# Altium integrated library Microchip Power Management Voltage Detector.IntLib: 122 symbols (part 1 of 4)
Pins are listed as number, name and electrical type; pins without a type are passive.

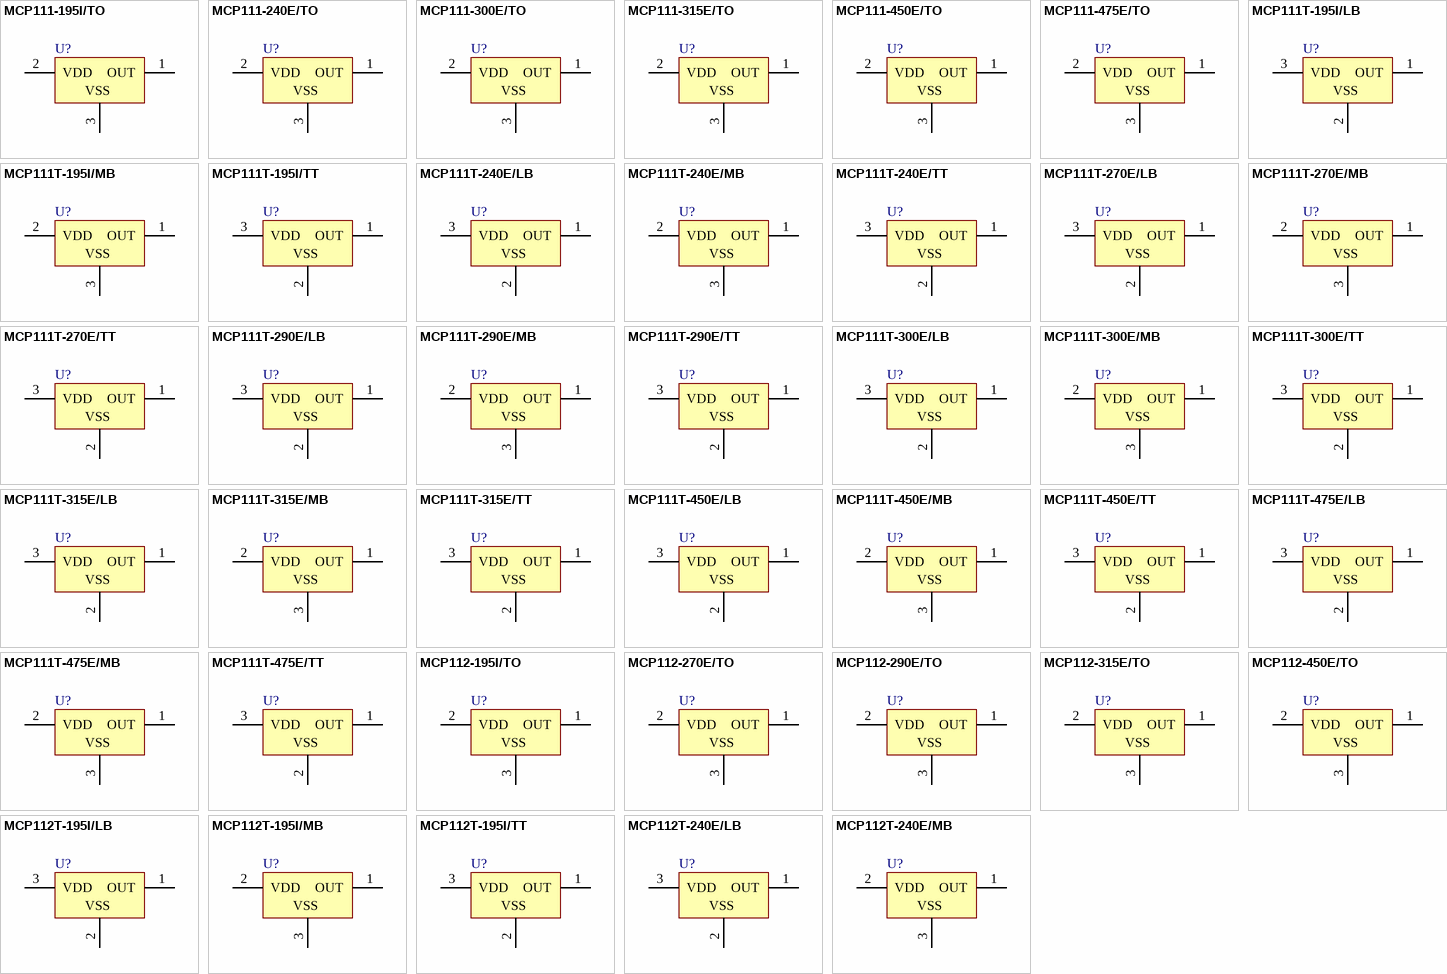
[diagram p0: symbols MCP111-195I/TO to MCP112T-240E/MB]

## MCP111-195I/TO
designator U?
1.75µA Micropower Voltage Detector, Open-Drain Output, 1.90V, 3-Pin TO-92, Industrial Temperature; Manufacturer: Microchip; PartNumber: MCP111-195I/TO; DatasheetVersion: revD, Jun-2005; PackageVersion: revBB, Aug-2009; PackageReference: TO-92-TO3; PackageDescription: 3-Lead Plastic Transistor Outline (TO) [TO-92]; Supplier 1: Digi-Key; Supplier Part Number 1: MCP111-195I/TO-ND; Supplier 2: Farnell; Supplier Part Number 2: 1439357; Supplier 3: Newark; Supplier Part Number 3: 58M8850; Supplier 4: Newark; Supplier Part Number 4: 17M0553; Supplier 5: Mouser; Supplier Part Number 5: 579-MCP111-195I/TO; Mounting Technology: Through Hole; ComponentLink1Description: Manufacturer URL; ComponentLink1URL: http://www.microchip.com/; ComponentLink2Description: Datasheet; ComponentLink2URL: http://ww1.microchip.com/downloads/en/DeviceDoc/21889d.pdf; ComponentLink3Description: Package Specification; ComponentLink3URL: http://www.microchip.com/stellent/groups/techpub_sg/documents/packagingspec/en012702.pdf
footprint TO-92-TO3 (TO, Flat Index; 3 In-Line, Axial Leads; Body Dia. 4.8mm; Leads 0.56 x 0.53 mm (max))
pins: 1 OUT (power), 2 VDD (power), 3 VSS (power)

## MCP111-240E/TO
designator U?
1.75µA Micropower Voltage Detector, Open-Drain Output, 2.32V, 3-Pin TO-92, Extended Temperature; Manufacturer: Microchip; PartNumber: MCP111-240E/TO; DatasheetVersion: revD, Jun-2005; PackageVersion: revBB, Aug-2009; PackageReference: TO-92-TO3; PackageDescription: 3-Lead Plastic Transistor Outline (TO) [TO-92]; Supplier 1: Digi-Key; Supplier Part Number 1: MCP111-240E/TO-ND; Supplier 2: Mouser; Supplier Part Number 2: 579-MCP111-240E/TO; Mounting Technology: Through Hole; ComponentLink1Description: Manufacturer URL; ComponentLink1URL: http://www.microchip.com/; ComponentLink2Description: Datasheet; ComponentLink2URL: http://ww1.microchip.com/downloads/en/DeviceDoc/21889d.pdf; ComponentLink3Description: Package Specification; ComponentLink3URL: http://www.microchip.com/stellent/groups/techpub_sg/documents/packagingspec/en012702.pdf
footprint TO-92-TO3 (TO, Flat Index; 3 In-Line, Axial Leads; Body Dia. 4.8mm; Leads 0.56 x 0.53 mm (max))
pins: 1 OUT (power), 2 VDD (power), 3 VSS (power)

## MCP111-300E/TO
designator U?
1.75µA Micropower Voltage Detector, Open-Drain Output, 2.93V, 3-Pin TO-92, Extended Temperature; Manufacturer: Microchip; PartNumber: MCP111-300E/TO; DatasheetVersion: revD, Jun-2005; PackageVersion: revBB, Aug-2009; PackageReference: TO-92-TO3; PackageDescription: 3-Lead Plastic Transistor Outline (TO) [TO-92]; Supplier 1: Digi-Key; Supplier Part Number 1: MCP111-300E/TO-ND; Supplier 2: Farnell; Supplier Part Number 2: 1851875; Supplier 3: Newark; Supplier Part Number 3: 56J7321; Supplier 4: Mouser; Supplier Part Number 4: 579-MCP111-300E/TO; Mounting Technology: Through Hole; ComponentLink1Description: Manufacturer URL; ComponentLink1URL: http://www.microchip.com/; ComponentLink2Description: Datasheet; ComponentLink2URL: http://ww1.microchip.com/downloads/en/DeviceDoc/21889d.pdf; ComponentLink3Description: Package Specification; ComponentLink3URL: http://www.microchip.com/stellent/groups/techpub_sg/documents/packagingspec/en012702.pdf
footprint TO-92-TO3 (TO, Flat Index; 3 In-Line, Axial Leads; Body Dia. 4.8mm; Leads 0.56 x 0.53 mm (max))
pins: 1 OUT (power), 2 VDD (power), 3 VSS (power)

## MCP111-315E/TO
designator U?
1.75µA Micropower Voltage Detector, Open-Drain Output, 3.08V, 3-Pin TO-92, Extended Temperature; Manufacturer: Microchip; PartNumber: MCP111-315E/TO; DatasheetVersion: revD, Jun-2005; PackageVersion: revBB, Aug-2009; PackageReference: TO-92-TO3; PackageDescription: 3-Lead Plastic Transistor Outline (TO) [TO-92]; Supplier 1: Digi-Key; Supplier Part Number 1: MCP111-315E/TO-ND; Supplier 2: Farnell; Supplier Part Number 2: 1863906; Supplier 3: Newark; Supplier Part Number 3: 56J7322; Supplier 4: Mouser; Supplier Part Number 4: 579-MCP111-315E/TO; Mounting Technology: Through Hole; ComponentLink1Description: Manufacturer URL; ComponentLink1URL: http://www.microchip.com/; ComponentLink2Description: Datasheet; ComponentLink2URL: http://ww1.microchip.com/downloads/en/DeviceDoc/21889d.pdf; ComponentLink3Description: Package Specification; ComponentLink3URL: http://www.microchip.com/stellent/groups/techpub_sg/documents/packagingspec/en012702.pdf
footprint TO-92-TO3 (TO, Flat Index; 3 In-Line, Axial Leads; Body Dia. 4.8mm; Leads 0.56 x 0.53 mm (max))
pins: 1 OUT (power), 2 VDD (power), 3 VSS (power)

## MCP111-450E/TO
designator U?
1.75µA Micropower Voltage Detector, Open-Drain Output, 4.38V, 3-Pin TO-92, Extended Temperature; Manufacturer: Microchip; PartNumber: MCP111-450E/TO; DatasheetVersion: revD, Jun-2005; PackageVersion: revBB, Aug-2009; PackageReference: TO-92-TO3; PackageDescription: 3-Lead Plastic Transistor Outline (TO) [TO-92]; Supplier 1: Digi-Key; Supplier Part Number 1: MCP111-450E/TO-ND; Supplier 2: Farnell; Supplier Part Number 2: 1332056; Supplier 3: Newark; Supplier Part Number 3: 34M7387; Supplier 4: Mouser; Supplier Part Number 4: 579-MCP111-450E/TO; Mounting Technology: Through Hole; ComponentLink1Description: Manufacturer URL; ComponentLink1URL: http://www.microchip.com/; ComponentLink2Description: Datasheet; ComponentLink2URL: http://ww1.microchip.com/downloads/en/DeviceDoc/21889d.pdf; ComponentLink3Description: Package Specification; ComponentLink3URL: http://www.microchip.com/stellent/groups/techpub_sg/documents/packagingspec/en012702.pdf
footprint TO-92-TO3 (TO, Flat Index; 3 In-Line, Axial Leads; Body Dia. 4.8mm; Leads 0.56 x 0.53 mm (max))
pins: 1 OUT (power), 2 VDD (power), 3 VSS (power)

## MCP111-475E/TO
designator U?
1.75µA Micropower Voltage Detector, Open-Drain Output, 4.63V, 3-Pin TO-92, Extended Temperature; Manufacturer: Microchip; PartNumber: MCP111-475E/TO; DatasheetVersion: revD, Jun-2005; PackageVersion: revBB, Aug-2009; PackageReference: TO-92-TO3; PackageDescription: 3-Lead Plastic Transistor Outline (TO) [TO-92]; Supplier 1: Digi-Key; Supplier Part Number 1: MCP111-475E/TO-ND; Supplier 2: Farnell; Supplier Part Number 2: 1863907; Supplier 3: Newark; Supplier Part Number 3: 56J7324; Supplier 4: Mouser; Supplier Part Number 4: 579-MCP111-475E/TO; Mounting Technology: Through Hole; ComponentLink1Description: Manufacturer URL; ComponentLink1URL: http://www.microchip.com/; ComponentLink2Description: Datasheet; ComponentLink2URL: http://ww1.microchip.com/downloads/en/DeviceDoc/21889d.pdf; ComponentLink3Description: Package Specification; ComponentLink3URL: http://www.microchip.com/stellent/groups/techpub_sg/documents/packagingspec/en012702.pdf
footprint TO-92-TO3 (TO, Flat Index; 3 In-Line, Axial Leads; Body Dia. 4.8mm; Leads 0.56 x 0.53 mm (max))
pins: 1 OUT (power), 2 VDD (power), 3 VSS (power)

## MCP111T-195I/LB
designator U?
1.75µA Micropower Voltage Detector, Open-Drain Output, 1.90V, 3-Pin SC-70, Industrial Temperature, Tape and Reel; Manufacturer: Microchip; PartNumber: MCP111T-195I/LB; DatasheetVersion: revD, Jun-2005; PackageVersion: revBB, Aug-2009; PackageReference: SC70-LB3; PackageDescription: 3-Lead Plastic Small Outline Transistor (LB) [SC70]; Supplier 1: Digi-Key; Supplier Part Number 1: MCP111T-195I/LB-ND; Supplier 2: Mouser; Supplier Part Number 2: 579-MCP111T-195I/LB; Mounting Technology: Surface Mount; ComponentLink1Description: Manufacturer URL; ComponentLink1URL: http://www.microchip.com/; ComponentLink2Description: Datasheet; ComponentLink2URL: http://ww1.microchip.com/downloads/en/DeviceDoc/21889d.pdf; ComponentLink3Description: Package Specification; ComponentLink3URL: http://www.microchip.com/stellent/groups/techpub_sg/documents/packagingspec/en012702.pdf
footprint SC70-LB3_N (SOT323, 3-Leads, Body 2.0x1.3mm, Pitch 0.65mm, Lead Span 2.1mm, IPC Medium Density)
footprint SC70-LB3_L (SOT323, 3-Leads, Body 2.0x1.3mm, Pitch 0.65mm, Lead Span 2.1mm, IPC High Density)
footprint SC70-LB3_M (SOT323, 3-Leads, Body 2.0x1.3mm, Pitch 0.65mm, Lead Span 2.1mm, IPC Low Density)
pins: 1 OUT (power), 2 VSS (power), 3 VDD (power)

## MCP111T-195I/MB
designator U?
1.75µA Micropower Voltage Detector, Open-Drain Output, 1.90V, 3-Pin SOT-89, Industrial Temperature, Tape and Reel; Manufacturer: Microchip; PartNumber: MCP111T-195I/MB; DatasheetVersion: revD, Jun-2005; PackageVersion: revBB, Aug-2009; PackageReference: SOT-89-MB3; PackageDescription: 3-Lead Plastic Small Outline Transistor Header (MB) [SOT-89]; Mounting Technology: Surface Mount; Code_IPC: SOT89; ComponentLink1Description: Manufacturer URL; ComponentLink1URL: http://www.microchip.com/; ComponentLink2Description: Datasheet; ComponentLink2URL: http://ww1.microchip.com/downloads/en/DeviceDoc/21889d.pdf; ComponentLink3Description: Package Specification; ComponentLink3URL: http://www.microchip.com/stellent/groups/techpub_sg/documents/packagingspec/en012702.pdf
footprint SOT-89-MB3_N (SOT89, 3-Leads, Body 4.5x2.4 mm, Pitch 1.5mm, Lead Span 4.1mm, IPC Medium Density)
footprint SOT-89-MB3_L (SOT89, 3-Leads, Body 4.5x2.4 mm, Pitch 1.5mm, Lead Span 4.1mm, IPC High Density)
footprint SOT-89-MB3_M (SOT89, 3-Leads, Body 4.5x2.4 mm, Pitch 1.5mm, Lead Span 4.1mm, IPC Low Density)
pins: 1 OUT (power), 2 VDD (power), 3 VSS (power)

## MCP111T-195I/TT
designator U?
1.75µA Micropower Voltage Detector, Open-Drain Output, 1.90V, 3-Pin SOT-23, Industrial Temperature, Tape and Reel; Manufacturer: Microchip; PartNumber: MCP111T-195I/TT; DatasheetVersion: revD, Jun-2005; PackageVersion: revBB, Aug-2009; PackageReference: SOT-23-TT3; PackageDescription: 3-Lead Plastic Small Outline Transistor (TT) [SOT-23]; Supplier 1: Digi-Key; Supplier Part Number 1: MCP111T-195I/TT-ND; Supplier 2: Mouser; Supplier Part Number 2: 579-MCP111T-195I/TT; Mounting Technology: Surface Mount; Code_IPC: SOT23-3; ComponentLink1Description: Manufacturer URL; ComponentLink1URL: http://www.microchip.com/; ComponentLink2Description: Datasheet; ComponentLink2URL: http://ww1.microchip.com/downloads/en/DeviceDoc/21889d.pdf; ComponentLink3Description: Package Specification; ComponentLink3URL: http://www.microchip.com/stellent/groups/techpub_sg/documents/packagingspec/en012702.pdf
footprint SOT-23-TT3_N (SOT23, 3-Leads, Body 2.9x1.3mm, Pitch 0.95mm, Lead Span 2.4mm, IPC Medium Density)
footprint SOT-23-TT3_L (SOT23, 3-Leads, Body 2.9x1.3mm, Pitch 0.95mm, Lead Span 2.4mm, IPC High Density)
footprint SOT-23-TT3_M (SOT23, 3-Leads, Body 2.9x1.3mm, Pitch 0.95mm, Lead Span 2.4mm, IPC Low Density)
pins: 1 OUT (power), 2 VSS (power), 3 VDD (power)

## MCP111T-240E/LB
designator U?
1.75µA Micropower Voltage Detector, Open-Drain Output, 2.32V, 3-Pin SC-70, Extended Temperature, Tape and Reel; Manufacturer: Microchip; PartNumber: MCP111T-240E/LB; DatasheetVersion: revD, Jun-2005; PackageVersion: revBB, Aug-2009; PackageReference: SC70-LB3; PackageDescription: 3-Lead Plastic Small Outline Transistor (LB) [SC70]; Supplier 1: Digi-Key; Supplier Part Number 1: MCP111T-240E/LBTR-ND; Supplier 2: Digi-Key; Supplier Part Number 2: MCP111T-240E/LBCT-ND; Supplier 3: Digi-Key; Supplier Part Number 3: MCP111T-240E/LBDKR-ND; Supplier 4: Farnell; Supplier Part Number 4: 1851876; Supplier 5: Newark; Supplier Part Number 5: 56J7325; Supplier 6: Mouser; Supplier Part Number 6: 579-MCP111T-240E/LB; Mounting Technology: Surface Mount; ComponentLink1Description: Manufacturer URL; ComponentLink1URL: http://www.microchip.com/; ComponentLink2Description: Datasheet; ComponentLink2URL: http://ww1.microchip.com/downloads/en/DeviceDoc/21889d.pdf; ComponentLink3Description: Package Specification; ComponentLink3URL: http://www.microchip.com/stellent/groups/techpub_sg/documents/packagingspec/en012702.pdf
footprint SC70-LB3_N (SOT323, 3-Leads, Body 2.0x1.3mm, Pitch 0.65mm, Lead Span 2.1mm, IPC Medium Density)
footprint SC70-LB3_L (SOT323, 3-Leads, Body 2.0x1.3mm, Pitch 0.65mm, Lead Span 2.1mm, IPC High Density)
footprint SC70-LB3_M (SOT323, 3-Leads, Body 2.0x1.3mm, Pitch 0.65mm, Lead Span 2.1mm, IPC Low Density)
pins: 1 OUT (power), 2 VSS (power), 3 VDD (power)

## MCP111T-240E/MB
designator U?
1.75µA Micropower Voltage Detector, Open-Drain Output, 2.32V, 3-Pin SOT-89, Extended Temperature, Tape and Reel; Manufacturer: Microchip; PartNumber: MCP111T-240E/MB; DatasheetVersion: revD, Jun-2005; PackageVersion: revBB, Aug-2009; PackageReference: SOT-89-MB3; PackageDescription: 3-Lead Plastic Small Outline Transistor Header (MB) [SOT-89]; Supplier 1: Digi-Key; Supplier Part Number 1: MCP111T-240E/MB-ND; Supplier 2: Mouser; Supplier Part Number 2: 579-MCP111T-240E/MB; Mounting Technology: Surface Mount; Code_IPC: SOT89; ComponentLink1Description: Manufacturer URL; ComponentLink1URL: http://www.microchip.com/; ComponentLink2Description: Datasheet; ComponentLink2URL: http://ww1.microchip.com/downloads/en/DeviceDoc/21889d.pdf; ComponentLink3Description: Package Specification; ComponentLink3URL: http://www.microchip.com/stellent/groups/techpub_sg/documents/packagingspec/en012702.pdf
footprint SOT-89-MB3_N (SOT89, 3-Leads, Body 4.5x2.4 mm, Pitch 1.5mm, Lead Span 4.1mm, IPC Medium Density)
footprint SOT-89-MB3_L (SOT89, 3-Leads, Body 4.5x2.4 mm, Pitch 1.5mm, Lead Span 4.1mm, IPC High Density)
footprint SOT-89-MB3_M (SOT89, 3-Leads, Body 4.5x2.4 mm, Pitch 1.5mm, Lead Span 4.1mm, IPC Low Density)
pins: 1 OUT (power), 2 VDD (power), 3 VSS (power)

## MCP111T-240E/TT
designator U?
1.75µA Micropower Voltage Detector, Open-Drain Output, 2.32V, 3-Pin SOT-23, Extended Temperature, Tape and Reel; Manufacturer: Microchip; PartNumber: MCP111T-240E/TT; DatasheetVersion: revD, Jun-2005; PackageVersion: revBB, Aug-2009; PackageReference: SOT-23-TT3; PackageDescription: 3-Lead Plastic Small Outline Transistor (TT) [SOT-23]; Supplier 1: Digi-Key; Supplier Part Number 1: MCP111T-240E/TTTR-ND; Supplier 2: Digi-Key; Supplier Part Number 2: MCP111T-240E/TTCT-ND; Supplier 3: Digi-Key; Supplier Part Number 3: MCP111T-240E/TTDKR-ND; Supplier 4: Farnell; Supplier Part Number 4: 1627192RL; Supplier 5: Farnell; Supplier Part Number 5: 1627192; Supplier 6: Newark; Supplier Part Number 6: 09P3981; Supplier 7: Mouser; Supplier Part Number 7: 579-MCP111T-240E/TT; Mounting Technology: Surface Mount; Code_IPC: SOT23-3; ComponentLink1Description: Manufacturer URL; ComponentLink1URL: http://www.microchip.com/; ComponentLink2Description: Datasheet; ComponentLink2URL: http://ww1.microchip.com/downloads/en/DeviceDoc/21889d.pdf; ComponentLink3Description: Package Specification; ComponentLink3URL: http://www.microchip.com/stellent/groups/techpub_sg/documents/packagingspec/en012702.pdf
footprint SOT-23-TT3_N (SOT23, 3-Leads, Body 2.9x1.3mm, Pitch 0.95mm, Lead Span 2.4mm, IPC Medium Density)
footprint SOT-23-TT3_L (SOT23, 3-Leads, Body 2.9x1.3mm, Pitch 0.95mm, Lead Span 2.4mm, IPC High Density)
footprint SOT-23-TT3_M (SOT23, 3-Leads, Body 2.9x1.3mm, Pitch 0.95mm, Lead Span 2.4mm, IPC Low Density)
pins: 1 OUT (power), 2 VSS (power), 3 VDD (power)

## MCP111T-270E/LB
designator U?
1.75µA Micropower Voltage Detector, Open-Drain Output, 2.63V, 3-Pin SC-70, Extended Temperature, Tape and Reel; Manufacturer: Microchip; PartNumber: MCP111T-270E/LB; DatasheetVersion: revD, Jun-2005; PackageVersion: revBB, Aug-2009; PackageReference: SC70-LB3; PackageDescription: 3-Lead Plastic Small Outline Transistor (LB) [SC70]; Supplier 1: Digi-Key; Supplier Part Number 1: MCP111T-270E/LBTR-ND; Supplier 2: Digi-Key; Supplier Part Number 2: MCP111T-270E/LBCT-ND; Supplier 3: Digi-Key; Supplier Part Number 3: MCP111T-270E/LBDKR-ND; Supplier 4: Farnell; Supplier Part Number 4: 1825064; Supplier 5: Mouser; Supplier Part Number 5: 579-MCP111T-270E/LB; Mounting Technology: Surface Mount; ComponentLink1Description: Manufacturer URL; ComponentLink1URL: http://www.microchip.com/; ComponentLink2Description: Datasheet; ComponentLink2URL: http://ww1.microchip.com/downloads/en/DeviceDoc/21889d.pdf; ComponentLink3Description: Package Specification; ComponentLink3URL: http://www.microchip.com/stellent/groups/techpub_sg/documents/packagingspec/en012702.pdf
footprint SC70-LB3_N (SOT323, 3-Leads, Body 2.0x1.3mm, Pitch 0.65mm, Lead Span 2.1mm, IPC Medium Density)
footprint SC70-LB3_L (SOT323, 3-Leads, Body 2.0x1.3mm, Pitch 0.65mm, Lead Span 2.1mm, IPC High Density)
footprint SC70-LB3_M (SOT323, 3-Leads, Body 2.0x1.3mm, Pitch 0.65mm, Lead Span 2.1mm, IPC Low Density)
pins: 1 OUT (power), 2 VSS (power), 3 VDD (power)

## MCP111T-270E/MB
designator U?
1.75µA Micropower Voltage Detector, Open-Drain Output, 2.63V, 3-Pin SOT-89, Extended Temperature, Tape and Reel; Manufacturer: Microchip; PartNumber: MCP111T-270E/MB; DatasheetVersion: revD, Jun-2005; PackageVersion: revBB, Aug-2009; PackageReference: SOT-89-MB3; PackageDescription: 3-Lead Plastic Small Outline Transistor Header (MB) [SOT-89]; Supplier 1: Digi-Key; Supplier Part Number 1: MCP111T-270E/MB-ND; Supplier 2: Mouser; Supplier Part Number 2: 579-MCP111T-270E/MB; Mounting Technology: Surface Mount; Code_IPC: SOT89; ComponentLink1Description: Manufacturer URL; ComponentLink1URL: http://www.microchip.com/; ComponentLink2Description: Datasheet; ComponentLink2URL: http://ww1.microchip.com/downloads/en/DeviceDoc/21889d.pdf; ComponentLink3Description: Package Specification; ComponentLink3URL: http://www.microchip.com/stellent/groups/techpub_sg/documents/packagingspec/en012702.pdf
footprint SOT-89-MB3_N (SOT89, 3-Leads, Body 4.5x2.4 mm, Pitch 1.5mm, Lead Span 4.1mm, IPC Medium Density)
footprint SOT-89-MB3_L (SOT89, 3-Leads, Body 4.5x2.4 mm, Pitch 1.5mm, Lead Span 4.1mm, IPC High Density)
footprint SOT-89-MB3_M (SOT89, 3-Leads, Body 4.5x2.4 mm, Pitch 1.5mm, Lead Span 4.1mm, IPC Low Density)
pins: 1 OUT (power), 2 VDD (power), 3 VSS (power)

## MCP111T-270E/TT
designator U?
1.75µA Micropower Voltage Detector, Open-Drain Output, 2.63V, 3-Pin SOT-23, Extended Temperature, Tape and Reel; Manufacturer: Microchip; PartNumber: MCP111T-270E/TT; DatasheetVersion: revD, Jun-2005; PackageVersion: revBB, Aug-2009; PackageReference: SOT-23-TT3; PackageDescription: 3-Lead Plastic Small Outline Transistor (TT) [SOT-23]; Supplier 1: Digi-Key; Supplier Part Number 1: MCP111T-270E/TTTR-ND; Supplier 2: Digi-Key; Supplier Part Number 2: MCP111T-270E/TTCT-ND; Supplier 3: Digi-Key; Supplier Part Number 3: MCP111T-270E/TTDKR-ND; Supplier 4: Farnell; Supplier Part Number 4: 1851877; Supplier 5: Farnell; Supplier Part Number 5: 1851877RL; Supplier 6: Newark; Supplier Part Number 6: 56J7328; Supplier 7: Newark; Supplier Part Number 7: 31T1299; Supplier 8: Mouser; Supplier Part Number 8: 579-MCP111T-270E/TT; Mounting Technology: Surface Mount; Code_IPC: SOT23-3; ComponentLink1Description: Manufacturer URL; ComponentLink1URL: http://www.microchip.com/; ComponentLink2Description: Datasheet; ComponentLink2URL: http://ww1.microchip.com/downloads/en/DeviceDoc/21889d.pdf; ComponentLink3Description: Package Specification; ComponentLink3URL: http://www.microchip.com/stellent/groups/techpub_sg/documents/packagingspec/en012702.pdf
footprint SOT-23-TT3_N (SOT23, 3-Leads, Body 2.9x1.3mm, Pitch 0.95mm, Lead Span 2.4mm, IPC Medium Density)
footprint SOT-23-TT3_L (SOT23, 3-Leads, Body 2.9x1.3mm, Pitch 0.95mm, Lead Span 2.4mm, IPC High Density)
footprint SOT-23-TT3_M (SOT23, 3-Leads, Body 2.9x1.3mm, Pitch 0.95mm, Lead Span 2.4mm, IPC Low Density)
pins: 1 OUT (power), 2 VSS (power), 3 VDD (power)

## MCP111T-290E/LB
designator U?
1.75µA Micropower Voltage Detector, Open-Drain Output, 2.90V, 3-Pin SC-70, Extended Temperature, Tape and Reel; Manufacturer: Microchip; PartNumber: MCP111T-290E/LB; DatasheetVersion: revD, Jun-2005; PackageVersion: revBB, Aug-2009; PackageReference: SC70-LB3; PackageDescription: 3-Lead Plastic Small Outline Transistor (LB) [SC70]; Supplier 1: Digi-Key; Supplier Part Number 1: MCP111T-290E/LBTR-ND; Supplier 2: Digi-Key; Supplier Part Number 2: MCP111T-290E/LBCT-ND; Supplier 3: Digi-Key; Supplier Part Number 3: MCP111T-290E/LBDKR-ND; Supplier 4: Farnell; Supplier Part Number 4: 1834874; Supplier 5: Newark; Supplier Part Number 5: 84R5162; Supplier 6: Mouser; Supplier Part Number 6: 579-MCP111T-290E/LB; Mounting Technology: Surface Mount; ComponentLink1Description: Manufacturer URL; ComponentLink1URL: http://www.microchip.com/; ComponentLink2Description: Datasheet; ComponentLink2URL: http://ww1.microchip.com/downloads/en/DeviceDoc/21889d.pdf; ComponentLink3Description: Package Specification; ComponentLink3URL: http://www.microchip.com/stellent/groups/techpub_sg/documents/packagingspec/en012702.pdf
footprint SC70-LB3_N (SOT323, 3-Leads, Body 2.0x1.3mm, Pitch 0.65mm, Lead Span 2.1mm, IPC Medium Density)
footprint SC70-LB3_L (SOT323, 3-Leads, Body 2.0x1.3mm, Pitch 0.65mm, Lead Span 2.1mm, IPC High Density)
footprint SC70-LB3_M (SOT323, 3-Leads, Body 2.0x1.3mm, Pitch 0.65mm, Lead Span 2.1mm, IPC Low Density)
pins: 1 OUT (power), 2 VSS (power), 3 VDD (power)

## MCP111T-290E/MB
designator U?
1.75µA Micropower Voltage Detector, Open-Drain Output, 2.90V, 3-Pin SOT-89, Extended Temperature, Tape and Reel; Manufacturer: Microchip; PartNumber: MCP111T-290E/MB; DatasheetVersion: revD, Jun-2005; PackageVersion: revBB, Aug-2009; PackageReference: SOT-89-MB3; PackageDescription: 3-Lead Plastic Small Outline Transistor Header (MB) [SOT-89]; Supplier 1: Digi-Key; Supplier Part Number 1: MCP111T-290E/MB-ND; Supplier 2: Mouser; Supplier Part Number 2: 579-MCP111T-290E/MB; Mounting Technology: Surface Mount; Code_IPC: SOT89; ComponentLink1Description: Manufacturer URL; ComponentLink1URL: http://www.microchip.com/; ComponentLink2Description: Datasheet; ComponentLink2URL: http://ww1.microchip.com/downloads/en/DeviceDoc/21889d.pdf; ComponentLink3Description: Package Specification; ComponentLink3URL: http://www.microchip.com/stellent/groups/techpub_sg/documents/packagingspec/en012702.pdf
footprint SOT-89-MB3_N (SOT89, 3-Leads, Body 4.5x2.4 mm, Pitch 1.5mm, Lead Span 4.1mm, IPC Medium Density)
footprint SOT-89-MB3_L (SOT89, 3-Leads, Body 4.5x2.4 mm, Pitch 1.5mm, Lead Span 4.1mm, IPC High Density)
footprint SOT-89-MB3_M (SOT89, 3-Leads, Body 4.5x2.4 mm, Pitch 1.5mm, Lead Span 4.1mm, IPC Low Density)
pins: 1 OUT (power), 2 VDD (power), 3 VSS (power)

## MCP111T-290E/TT
designator U?
1.75µA Micropower Voltage Detector, Open-Drain Output, 2.90V, 3-Pin SOT-23, Extended Temperature, Tape and Reel; Manufacturer: Microchip; PartNumber: MCP111T-290E/TT; DatasheetVersion: revD, Jun-2005; PackageVersion: revBB, Aug-2009; PackageReference: SOT-23-TT3; PackageDescription: 3-Lead Plastic Small Outline Transistor (TT) [SOT-23]; Supplier 1: Digi-Key; Supplier Part Number 1: MCP111T-290E/TTTR-ND; Supplier 2: Digi-Key; Supplier Part Number 2: MCP111T-290E/TTCT-ND; Supplier 3: Digi-Key; Supplier Part Number 3: MCP111T-290E/TTDKR-ND; Supplier 4: Farnell; Supplier Part Number 4: 1332057; Supplier 5: Farnell; Supplier Part Number 5: 1332057RL; Supplier 6: Newark; Supplier Part Number 6: 84R5163; Supplier 7: Mouser; Supplier Part Number 7: 579-MCP111T-290E/TT; Mounting Technology: Surface Mount; Code_IPC: SOT23-3; ComponentLink1Description: Manufacturer URL; ComponentLink1URL: http://www.microchip.com/; ComponentLink2Description: Datasheet; ComponentLink2URL: http://ww1.microchip.com/downloads/en/DeviceDoc/21889d.pdf; ComponentLink3Description: Package Specification; ComponentLink3URL: http://www.microchip.com/stellent/groups/techpub_sg/documents/packagingspec/en012702.pdf
footprint SOT-23-TT3_N (SOT23, 3-Leads, Body 2.9x1.3mm, Pitch 0.95mm, Lead Span 2.4mm, IPC Medium Density)
footprint SOT-23-TT3_L (SOT23, 3-Leads, Body 2.9x1.3mm, Pitch 0.95mm, Lead Span 2.4mm, IPC High Density)
footprint SOT-23-TT3_M (SOT23, 3-Leads, Body 2.9x1.3mm, Pitch 0.95mm, Lead Span 2.4mm, IPC Low Density)
pins: 1 OUT (power), 2 VSS (power), 3 VDD (power)

## MCP111T-300E/LB
designator U?
1.75µA Micropower Voltage Detector, Open-Drain Output, 2.93V, 3-Pin SC-70, Extended Temperature, Tape and Reel; Manufacturer: Microchip; PartNumber: MCP111T-300E/LB; DatasheetVersion: revD, Jun-2005; PackageVersion: revBB, Aug-2009; PackageReference: SC70-LB3; PackageDescription: 3-Lead Plastic Small Outline Transistor (LB) [SC70]; Supplier 1: Digi-Key; Supplier Part Number 1: MCP111T-300E/LBTR-ND; Supplier 2: Digi-Key; Supplier Part Number 2: MCP111T-300E/LBCT-ND; Supplier 3: Digi-Key; Supplier Part Number 3: MCP111T-300E/LBDKR-ND; Supplier 4: Farnell; Supplier Part Number 4: 1851878; Supplier 5: Newark; Supplier Part Number 5: 31T1300; Supplier 6: Newark; Supplier Part Number 6: 56J7331; Supplier 7: Mouser; Supplier Part Number 7: 579-MCP111T-300E/LB; Mounting Technology: Surface Mount; ComponentLink1Description: Manufacturer URL; ComponentLink1URL: http://www.microchip.com/; ComponentLink2Description: Datasheet; ComponentLink2URL: http://ww1.microchip.com/downloads/en/DeviceDoc/21889d.pdf; ComponentLink3Description: Package Specification; ComponentLink3URL: http://www.microchip.com/stellent/groups/techpub_sg/documents/packagingspec/en012702.pdf
footprint SC70-LB3_N (SOT323, 3-Leads, Body 2.0x1.3mm, Pitch 0.65mm, Lead Span 2.1mm, IPC Medium Density)
footprint SC70-LB3_L (SOT323, 3-Leads, Body 2.0x1.3mm, Pitch 0.65mm, Lead Span 2.1mm, IPC High Density)
footprint SC70-LB3_M (SOT323, 3-Leads, Body 2.0x1.3mm, Pitch 0.65mm, Lead Span 2.1mm, IPC Low Density)
pins: 1 OUT (power), 2 VSS (power), 3 VDD (power)

## MCP111T-300E/MB
designator U?
1.75µA Micropower Voltage Detector, Open-Drain Output, 2.93V, 3-Pin SOT-89, Extended Temperature, Tape and Reel; Manufacturer: Microchip; PartNumber: MCP111T-300E/MB; DatasheetVersion: revD, Jun-2005; PackageVersion: revBB, Aug-2009; PackageReference: SOT-89-MB3; PackageDescription: 3-Lead Plastic Small Outline Transistor Header (MB) [SOT-89]; Supplier 1: Digi-Key; Supplier Part Number 1: MCP111T-300E/MB-ND; Supplier 2: Mouser; Supplier Part Number 2: 579-MCP111T-300E/MB; Mounting Technology: Surface Mount; Code_IPC: SOT89; ComponentLink1Description: Manufacturer URL; ComponentLink1URL: http://www.microchip.com/; ComponentLink2Description: Datasheet; ComponentLink2URL: http://ww1.microchip.com/downloads/en/DeviceDoc/21889d.pdf; ComponentLink3Description: Package Specification; ComponentLink3URL: http://www.microchip.com/stellent/groups/techpub_sg/documents/packagingspec/en012702.pdf
footprint SOT-89-MB3_N (SOT89, 3-Leads, Body 4.5x2.4 mm, Pitch 1.5mm, Lead Span 4.1mm, IPC Medium Density)
footprint SOT-89-MB3_L (SOT89, 3-Leads, Body 4.5x2.4 mm, Pitch 1.5mm, Lead Span 4.1mm, IPC High Density)
footprint SOT-89-MB3_M (SOT89, 3-Leads, Body 4.5x2.4 mm, Pitch 1.5mm, Lead Span 4.1mm, IPC Low Density)
pins: 1 OUT (power), 2 VDD (power), 3 VSS (power)

## MCP111T-300E/TT
designator U?
1.75µA Micropower Voltage Detector, Open-Drain Output, 2.93V, 3-Pin SOT-23, Extended Temperature, Tape and Reel; Manufacturer: Microchip; PartNumber: MCP111T-300E/TT; DatasheetVersion: revD, Jun-2005; PackageVersion: revBB, Aug-2009; PackageReference: SOT-23-TT3; PackageDescription: 3-Lead Plastic Small Outline Transistor (TT) [SOT-23]; Supplier 1: Digi-Key; Supplier Part Number 1: MCP111T-300E/TTTR-ND; Supplier 2: Digi-Key; Supplier Part Number 2: MCP111T-300E/TTCT-ND; Supplier 3: Digi-Key; Supplier Part Number 3: MCP111T-300E/TTDKR-ND; Supplier 4: Farnell; Supplier Part Number 4: 1605552; Supplier 5: Farnell; Supplier Part Number 5: 1605552RL; Supplier 6: Newark; Supplier Part Number 6: 11N7983; Supplier 7: Mouser; Supplier Part Number 7: 579-MCP111T-300E/TT; Mounting Technology: Surface Mount; Code_IPC: SOT23-3; ComponentLink1Description: Manufacturer URL; ComponentLink1URL: http://www.microchip.com/; ComponentLink2Description: Datasheet; ComponentLink2URL: http://ww1.microchip.com/downloads/en/DeviceDoc/21889d.pdf; ComponentLink3Description: Package Specification; ComponentLink3URL: http://www.microchip.com/stellent/groups/techpub_sg/documents/packagingspec/en012702.pdf
footprint SOT-23-TT3_N (SOT23, 3-Leads, Body 2.9x1.3mm, Pitch 0.95mm, Lead Span 2.4mm, IPC Medium Density)
footprint SOT-23-TT3_L (SOT23, 3-Leads, Body 2.9x1.3mm, Pitch 0.95mm, Lead Span 2.4mm, IPC High Density)
footprint SOT-23-TT3_M (SOT23, 3-Leads, Body 2.9x1.3mm, Pitch 0.95mm, Lead Span 2.4mm, IPC Low Density)
pins: 1 OUT (power), 2 VSS (power), 3 VDD (power)

## MCP111T-315E/LB
designator U?
1.75µA Micropower Voltage Detector, Open-Drain Output, 3.08V, 3-Pin SC-70, Extended Temperature, Tape and Reel; Manufacturer: Microchip; PartNumber: MCP111T-315E/LB; DatasheetVersion: revD, Jun-2005; PackageVersion: revBB, Aug-2009; PackageReference: SC70-LB3; PackageDescription: 3-Lead Plastic Small Outline Transistor (LB) [SC70]; Supplier 1: Digi-Key; Supplier Part Number 1: MCP111T-315E/LBTR-ND; Supplier 2: Digi-Key; Supplier Part Number 2: MCP111T-315E/LBCT-ND; Supplier 3: Digi-Key; Supplier Part Number 3: MCP111T-315E/LBDKR-ND; Supplier 4: Farnell; Supplier Part Number 4: 1851879; Supplier 5: Newark; Supplier Part Number 5: 31T1301; Supplier 6: Newark; Supplier Part Number 6: 56J7333; Supplier 7: Mouser; Supplier Part Number 7: 579-MCP111T-315E/LB; Mounting Technology: Surface Mount; ComponentLink1Description: Manufacturer URL; ComponentLink1URL: http://www.microchip.com/; ComponentLink2Description: Datasheet; ComponentLink2URL: http://ww1.microchip.com/downloads/en/DeviceDoc/21889d.pdf; ComponentLink3Description: Package Specification; ComponentLink3URL: http://www.microchip.com/stellent/groups/techpub_sg/documents/packagingspec/en012702.pdf
footprint SC70-LB3_N (SOT323, 3-Leads, Body 2.0x1.3mm, Pitch 0.65mm, Lead Span 2.1mm, IPC Medium Density)
footprint SC70-LB3_L (SOT323, 3-Leads, Body 2.0x1.3mm, Pitch 0.65mm, Lead Span 2.1mm, IPC High Density)
footprint SC70-LB3_M (SOT323, 3-Leads, Body 2.0x1.3mm, Pitch 0.65mm, Lead Span 2.1mm, IPC Low Density)
pins: 1 OUT (power), 2 VSS (power), 3 VDD (power)

## MCP111T-315E/MB
designator U?
1.75µA Micropower Voltage Detector, Open-Drain Output, 3.08V, 3-Pin SOT-89, Extended Temperature, Tape and Reel; Manufacturer: Microchip; PartNumber: MCP111T-315E/MB; DatasheetVersion: revD, Jun-2005; PackageVersion: revBB, Aug-2009; PackageReference: SOT-89-MB3; PackageDescription: 3-Lead Plastic Small Outline Transistor Header (MB) [SOT-89]; Supplier 1: Digi-Key; Supplier Part Number 1: MCP111T-315E/MB-ND; Supplier 2: Mouser; Supplier Part Number 2: 579-MCP111T-315E/MB; Mounting Technology: Surface Mount; Code_IPC: SOT89; ComponentLink1Description: Manufacturer URL; ComponentLink1URL: http://www.microchip.com/; ComponentLink2Description: Datasheet; ComponentLink2URL: http://ww1.microchip.com/downloads/en/DeviceDoc/21889d.pdf; ComponentLink3Description: Package Specification; ComponentLink3URL: http://www.microchip.com/stellent/groups/techpub_sg/documents/packagingspec/en012702.pdf
footprint SOT-89-MB3_N (SOT89, 3-Leads, Body 4.5x2.4 mm, Pitch 1.5mm, Lead Span 4.1mm, IPC Medium Density)
footprint SOT-89-MB3_L (SOT89, 3-Leads, Body 4.5x2.4 mm, Pitch 1.5mm, Lead Span 4.1mm, IPC High Density)
footprint SOT-89-MB3_M (SOT89, 3-Leads, Body 4.5x2.4 mm, Pitch 1.5mm, Lead Span 4.1mm, IPC Low Density)
pins: 1 OUT (power), 2 VDD (power), 3 VSS (power)

## MCP111T-315E/TT
designator U?
1.75µA Micropower Voltage Detector, Open-Drain Output, 3.08V, 3-Pin SOT-23, Extended Temperature, Tape and Reel; Manufacturer: Microchip; PartNumber: MCP111T-315E/TT; DatasheetVersion: revD, Jun-2005; PackageVersion: revBB, Aug-2009; PackageReference: SOT-23-TT3; PackageDescription: 3-Lead Plastic Small Outline Transistor (TT) [SOT-23]; Supplier 1: Digi-Key; Supplier Part Number 1: MCP111T-315E/TTTR-ND; Supplier 2: Digi-Key; Supplier Part Number 2: MCP111T-315E/TTCT-ND; Supplier 3: Digi-Key; Supplier Part Number 3: MCP111T-315E/TTDKR-ND; Supplier 4: Farnell; Supplier Part Number 4: 1627194RL; Supplier 5: Farnell; Supplier Part Number 5: 1627194; Supplier 6: Newark; Supplier Part Number 6: 09P3982; Supplier 7: Newark; Supplier Part Number 7: 56J7334; Supplier 8: Mouser; Supplier Part Number 8: 579-MCP111T-315E/TT; Mounting Technology: Surface Mount; Code_IPC: SOT23-3; ComponentLink1Description: Manufacturer URL; ComponentLink1URL: http://www.microchip.com/; ComponentLink2Description: Datasheet; ComponentLink2URL: http://ww1.microchip.com/downloads/en/DeviceDoc/21889d.pdf; ComponentLink3Description: Package Specification; ComponentLink3URL: http://www.microchip.com/stellent/groups/techpub_sg/documents/packagingspec/en012702.pdf
footprint SOT-23-TT3_N (SOT23, 3-Leads, Body 2.9x1.3mm, Pitch 0.95mm, Lead Span 2.4mm, IPC Medium Density)
footprint SOT-23-TT3_L (SOT23, 3-Leads, Body 2.9x1.3mm, Pitch 0.95mm, Lead Span 2.4mm, IPC High Density)
footprint SOT-23-TT3_M (SOT23, 3-Leads, Body 2.9x1.3mm, Pitch 0.95mm, Lead Span 2.4mm, IPC Low Density)
pins: 1 OUT (power), 2 VSS (power), 3 VDD (power)

## MCP111T-450E/LB
designator U?
1.75µA Micropower Voltage Detector, Open-Drain Output, 4.38V, 3-Pin SC-70, Extended Temperature, Tape and Reel; Manufacturer: Microchip; PartNumber: MCP111T-450E/LB; DatasheetVersion: revD, Jun-2005; PackageVersion: revBB, Aug-2009; PackageReference: SC70-LB3; PackageDescription: 3-Lead Plastic Small Outline Transistor (LB) [SC70]; Supplier 1: Digi-Key; Supplier Part Number 1: MCP111T-450E/LBTR-ND; Supplier 2: Digi-Key; Supplier Part Number 2: MCP111T-450E/LBCT-ND; Supplier 3: Digi-Key; Supplier Part Number 3: MCP111T-450E/LBDKR-ND; Supplier 4: Farnell; Supplier Part Number 4: 1834875; Supplier 5: Newark; Supplier Part Number 5: 84R5164; Supplier 6: Mouser; Supplier Part Number 6: 579-MCP111T-450E/LB; Mounting Technology: Surface Mount; ComponentLink1Description: Manufacturer URL; ComponentLink1URL: http://www.microchip.com/; ComponentLink2Description: Datasheet; ComponentLink2URL: http://ww1.microchip.com/downloads/en/DeviceDoc/21889d.pdf; ComponentLink3Description: Package Specification; ComponentLink3URL: http://www.microchip.com/stellent/groups/techpub_sg/documents/packagingspec/en012702.pdf
footprint SC70-LB3_N (SOT323, 3-Leads, Body 2.0x1.3mm, Pitch 0.65mm, Lead Span 2.1mm, IPC Medium Density)
footprint SC70-LB3_L (SOT323, 3-Leads, Body 2.0x1.3mm, Pitch 0.65mm, Lead Span 2.1mm, IPC High Density)
footprint SC70-LB3_M (SOT323, 3-Leads, Body 2.0x1.3mm, Pitch 0.65mm, Lead Span 2.1mm, IPC Low Density)
pins: 1 OUT (power), 2 VSS (power), 3 VDD (power)

## MCP111T-450E/MB
designator U?
1.75µA Micropower Voltage Detector, Open-Drain Output, 4.38V, 3-Pin SOT-89, Extended Temperature, Tape and Reel; Manufacturer: Microchip; PartNumber: MCP111T-450E/MB; DatasheetVersion: revD, Jun-2005; PackageVersion: revBB, Aug-2009; PackageReference: SOT-89-MB3; PackageDescription: 3-Lead Plastic Small Outline Transistor Header (MB) [SOT-89]; Supplier 1: Digi-Key; Supplier Part Number 1: MCP111T-450E/MB-ND; Supplier 2: Mouser; Supplier Part Number 2: 579-MCP111T-450E/MB; Mounting Technology: Surface Mount; Code_IPC: SOT89; ComponentLink1Description: Manufacturer URL; ComponentLink1URL: http://www.microchip.com/; ComponentLink2Description: Datasheet; ComponentLink2URL: http://ww1.microchip.com/downloads/en/DeviceDoc/21889d.pdf; ComponentLink3Description: Package Specification; ComponentLink3URL: http://www.microchip.com/stellent/groups/techpub_sg/documents/packagingspec/en012702.pdf
footprint SOT-89-MB3_N (SOT89, 3-Leads, Body 4.5x2.4 mm, Pitch 1.5mm, Lead Span 4.1mm, IPC Medium Density)
footprint SOT-89-MB3_L (SOT89, 3-Leads, Body 4.5x2.4 mm, Pitch 1.5mm, Lead Span 4.1mm, IPC High Density)
footprint SOT-89-MB3_M (SOT89, 3-Leads, Body 4.5x2.4 mm, Pitch 1.5mm, Lead Span 4.1mm, IPC Low Density)
pins: 1 OUT (power), 2 VDD (power), 3 VSS (power)

## MCP111T-450E/TT
designator U?
1.75µA Micropower Voltage Detector, Open-Drain Output, 4.38V, 3-Pin SOT-23, Extended Temperature, Tape and Reel; Manufacturer: Microchip; PartNumber: MCP111T-450E/TT; DatasheetVersion: revD, Jun-2005; PackageVersion: revBB, Aug-2009; PackageReference: SOT-23-TT3; PackageDescription: 3-Lead Plastic Small Outline Transistor (TT) [SOT-23]; Supplier 1: Digi-Key; Supplier Part Number 1: MCP111T-450E/TTTR-ND; Supplier 2: Digi-Key; Supplier Part Number 2: MCP111T-450E/TTCT-ND; Supplier 3: Digi-Key; Supplier Part Number 3: MCP111T-450E/TTDKR-ND; Supplier 4: Farnell; Supplier Part Number 4: 1332058; Supplier 5: Farnell; Supplier Part Number 5: 1332058RL; Supplier 6: Newark; Supplier Part Number 6: 84R5165; Supplier 7: Mouser; Supplier Part Number 7: 579-MCP111T-450E/TT; Mounting Technology: Surface Mount; Code_IPC: SOT23-3; ComponentLink1Description: Manufacturer URL; ComponentLink1URL: http://www.microchip.com/; ComponentLink2Description: Datasheet; ComponentLink2URL: http://ww1.microchip.com/downloads/en/DeviceDoc/21889d.pdf; ComponentLink3Description: Package Specification; ComponentLink3URL: http://www.microchip.com/stellent/groups/techpub_sg/documents/packagingspec/en012702.pdf
footprint SOT-23-TT3_N (SOT23, 3-Leads, Body 2.9x1.3mm, Pitch 0.95mm, Lead Span 2.4mm, IPC Medium Density)
footprint SOT-23-TT3_L (SOT23, 3-Leads, Body 2.9x1.3mm, Pitch 0.95mm, Lead Span 2.4mm, IPC High Density)
footprint SOT-23-TT3_M (SOT23, 3-Leads, Body 2.9x1.3mm, Pitch 0.95mm, Lead Span 2.4mm, IPC Low Density)
pins: 1 OUT (power), 2 VSS (power), 3 VDD (power)

## MCP111T-475E/LB
designator U?
1.75µA Micropower Voltage Detector, Open-Drain Output, 4.63V, 3-Pin SC-70, Extended Temperature, Tape and Reel; Manufacturer: Microchip; PartNumber: MCP111T-475E/LB; DatasheetVersion: revD, Jun-2005; PackageVersion: revBB, Aug-2009; PackageReference: SC70-LB3; PackageDescription: 3-Lead Plastic Small Outline Transistor (LB) [SC70]; Supplier 1: Digi-Key; Supplier Part Number 1: MCP111T-475E/LBTR-ND; Supplier 2: Digi-Key; Supplier Part Number 2: MCP111T-475E/LBCT-ND; Supplier 3: Digi-Key; Supplier Part Number 3: MCP111T-475E/LBDKR-ND; Supplier 4: Farnell; Supplier Part Number 4: 1851880; Supplier 5: Newark; Supplier Part Number 5: 56J7337; Supplier 6: Newark; Supplier Part Number 6: 31T1302; Supplier 7: Mouser; Supplier Part Number 7: 579-MCP111T-475E/LB; Mounting Technology: Surface Mount; ComponentLink1Description: Manufacturer URL; ComponentLink1URL: http://www.microchip.com/; ComponentLink2Description: Datasheet; ComponentLink2URL: http://ww1.microchip.com/downloads/en/DeviceDoc/21889d.pdf; ComponentLink3Description: Package Specification; ComponentLink3URL: http://www.microchip.com/stellent/groups/techpub_sg/documents/packagingspec/en012702.pdf
footprint SC70-LB3_N (SOT323, 3-Leads, Body 2.0x1.3mm, Pitch 0.65mm, Lead Span 2.1mm, IPC Medium Density)
footprint SC70-LB3_L (SOT323, 3-Leads, Body 2.0x1.3mm, Pitch 0.65mm, Lead Span 2.1mm, IPC High Density)
footprint SC70-LB3_M (SOT323, 3-Leads, Body 2.0x1.3mm, Pitch 0.65mm, Lead Span 2.1mm, IPC Low Density)
pins: 1 OUT (power), 2 VSS (power), 3 VDD (power)

## MCP111T-475E/MB
designator U?
1.75µA Micropower Voltage Detector, Open-Drain Output, 4.63V, 3-Pin SOT-89, Extended Temperature, Tape and Reel; Manufacturer: Microchip; PartNumber: MCP111T-475E/MB; DatasheetVersion: revD, Jun-2005; PackageVersion: revBB, Aug-2009; PackageReference: SOT-89-MB3; PackageDescription: 3-Lead Plastic Small Outline Transistor Header (MB) [SOT-89]; Supplier 1: Digi-Key; Supplier Part Number 1: MCP111T-475E/MB-ND; Supplier 2: Mouser; Supplier Part Number 2: 579-MCP111T-475E/MB; Mounting Technology: Surface Mount; Code_IPC: SOT89; ComponentLink1Description: Manufacturer URL; ComponentLink1URL: http://www.microchip.com/; ComponentLink2Description: Datasheet; ComponentLink2URL: http://ww1.microchip.com/downloads/en/DeviceDoc/21889d.pdf; ComponentLink3Description: Package Specification; ComponentLink3URL: http://www.microchip.com/stellent/groups/techpub_sg/documents/packagingspec/en012702.pdf
footprint SOT-89-MB3_N (SOT89, 3-Leads, Body 4.5x2.4 mm, Pitch 1.5mm, Lead Span 4.1mm, IPC Medium Density)
footprint SOT-89-MB3_L (SOT89, 3-Leads, Body 4.5x2.4 mm, Pitch 1.5mm, Lead Span 4.1mm, IPC High Density)
footprint SOT-89-MB3_M (SOT89, 3-Leads, Body 4.5x2.4 mm, Pitch 1.5mm, Lead Span 4.1mm, IPC Low Density)
pins: 1 OUT (power), 2 VDD (power), 3 VSS (power)

## MCP111T-475E/TT
designator U?
1.75µA Micropower Voltage Detector, Open-Drain Output, 4.63V, 3-Pin SOT-23, Extended Temperature, Tape and Reel; Manufacturer: Microchip; PartNumber: MCP111T-475E/TT; DatasheetVersion: revD, Jun-2005; PackageVersion: revBB, Aug-2009; PackageReference: SOT-23-TT3; PackageDescription: 3-Lead Plastic Small Outline Transistor (TT) [SOT-23]; Supplier 1: Digi-Key; Supplier Part Number 1: MCP111T-475E/TTTR-ND; Supplier 2: Digi-Key; Supplier Part Number 2: MCP111T-475E/TTCT-ND; Supplier 3: Digi-Key; Supplier Part Number 3: MCP111T-475E/TTDKR-ND; Supplier 4: Farnell; Supplier Part Number 4: 1863908RL; Supplier 5: Farnell; Supplier Part Number 5: 1863908; Supplier 6: Newark; Supplier Part Number 6: 37J1622; Supplier 7: Newark; Supplier Part Number 7: 31T1303; Supplier 8: Mouser; Supplier Part Number 8: 579-MCP111T-475E/TT; Mounting Technology: Surface Mount; Code_IPC: SOT23-3; ComponentLink1Description: Manufacturer URL; ComponentLink1URL: http://www.microchip.com/; ComponentLink2Description: Datasheet; ComponentLink2URL: http://ww1.microchip.com/downloads/en/DeviceDoc/21889d.pdf; ComponentLink3Description: Package Specification; ComponentLink3URL: http://www.microchip.com/stellent/groups/techpub_sg/documents/packagingspec/en012702.pdf
footprint SOT-23-TT3_N (SOT23, 3-Leads, Body 2.9x1.3mm, Pitch 0.95mm, Lead Span 2.4mm, IPC Medium Density)
footprint SOT-23-TT3_L (SOT23, 3-Leads, Body 2.9x1.3mm, Pitch 0.95mm, Lead Span 2.4mm, IPC High Density)
footprint SOT-23-TT3_M (SOT23, 3-Leads, Body 2.9x1.3mm, Pitch 0.95mm, Lead Span 2.4mm, IPC Low Density)
pins: 1 OUT (power), 2 VSS (power), 3 VDD (power)

## MCP112-195I/TO
designator U?
1.75µA Micropower Voltage Detector, Push-Pull Output, 1.90V, 3-Pin TO-92, Industrial Temperature; Manufacturer: Microchip; PartNumber: MCP112-195I/TO; DatasheetVersion: revD, Jun-2005; PackageVersion: revBB, Aug-2009; PackageReference: TO-92-TO3; PackageDescription: 3-Lead Plastic Transistor Outline (TO) [TO-92]; Supplier 1: Digi-Key; Supplier Part Number 1: MCP112-195I/TO-ND; Supplier 2: Mouser; Supplier Part Number 2: 579-MCP112-195I/TO; Mounting Technology: Through Hole; ComponentLink1Description: Manufacturer URL; ComponentLink1URL: http://www.microchip.com/; ComponentLink2Description: Datasheet; ComponentLink2URL: http://ww1.microchip.com/downloads/en/DeviceDoc/21889d.pdf; ComponentLink3Description: Package Specification; ComponentLink3URL: http://www.microchip.com/stellent/groups/techpub_sg/documents/packagingspec/en012702.pdf
footprint TO-92-TO3 (TO, Flat Index; 3 In-Line, Axial Leads; Body Dia. 4.8mm; Leads 0.56 x 0.53 mm (max))
pins: 1 OUT (power), 2 VDD (power), 3 VSS (power)

## MCP112-270E/TO
designator U?
1.75µA Micropower Voltage Detector, Push-Pull Output, 2.63V, 3-Pin TO-92, Extended Temperature; Manufacturer: Microchip; PartNumber: MCP112-270E/TO; DatasheetVersion: revD, Jun-2005; PackageVersion: revBB, Aug-2009; PackageReference: TO-92-TO3; PackageDescription: 3-Lead Plastic Transistor Outline (TO) [TO-92]; Supplier 1: Digi-Key; Supplier Part Number 1: MCP112-270E/TO-ND; Supplier 2: Mouser; Supplier Part Number 2: 579-MCP112-270E/TO; Mounting Technology: Through Hole; ComponentLink1Description: Manufacturer URL; ComponentLink1URL: http://www.microchip.com/; ComponentLink2Description: Datasheet; ComponentLink2URL: http://ww1.microchip.com/downloads/en/DeviceDoc/21889d.pdf; ComponentLink3Description: Package Specification; ComponentLink3URL: http://www.microchip.com/stellent/groups/techpub_sg/documents/packagingspec/en012702.pdf
footprint TO-92-TO3 (TO, Flat Index; 3 In-Line, Axial Leads; Body Dia. 4.8mm; Leads 0.56 x 0.53 mm (max))
pins: 1 OUT (power), 2 VDD (power), 3 VSS (power)

## MCP112-290E/TO
designator U?
1.75µA Micropower Voltage Detector, Push-Pull Output, 2.90V, 3-Pin TO-92, Extended Temperature; Manufacturer: Microchip; PartNumber: MCP112-290E/TO; DatasheetVersion: revD, Jun-2005; PackageVersion: revBB, Aug-2009; PackageReference: TO-92-TO3; PackageDescription: 3-Lead Plastic Transistor Outline (TO) [TO-92]; Supplier 1: Digi-Key; Supplier Part Number 1: MCP112-290E/TO-ND; Supplier 2: Mouser; Supplier Part Number 2: 579-MCP112-290E/TO; Mounting Technology: Through Hole; ComponentLink1Description: Manufacturer URL; ComponentLink1URL: http://www.microchip.com/; ComponentLink2Description: Datasheet; ComponentLink2URL: http://ww1.microchip.com/downloads/en/DeviceDoc/21889d.pdf; ComponentLink3Description: Package Specification; ComponentLink3URL: http://www.microchip.com/stellent/groups/techpub_sg/documents/packagingspec/en012702.pdf
footprint TO-92-TO3 (TO, Flat Index; 3 In-Line, Axial Leads; Body Dia. 4.8mm; Leads 0.56 x 0.53 mm (max))
pins: 1 OUT (power), 2 VDD (power), 3 VSS (power)

## MCP112-315E/TO
designator U?
1.75µA Micropower Voltage Detector, Push-Pull Output, 3.08V, 3-Pin TO-92, Extended Temperature; Manufacturer: Microchip; PartNumber: MCP112-315E/TO; DatasheetVersion: revD, Jun-2005; PackageVersion: revBB, Aug-2009; PackageReference: TO-92-TO3; PackageDescription: 3-Lead Plastic Transistor Outline (TO) [TO-92]; Supplier 1: Digi-Key; Supplier Part Number 1: MCP112-315E/TO-ND; Supplier 2: Farnell; Supplier Part Number 2: 1851881; Supplier 3: Newark; Supplier Part Number 3: 56J7343; Supplier 4: Mouser; Supplier Part Number 4: 579-MCP112-315E/TO; Mounting Technology: Through Hole; ComponentLink1Description: Manufacturer URL; ComponentLink1URL: http://www.microchip.com/; ComponentLink2Description: Datasheet; ComponentLink2URL: http://ww1.microchip.com/downloads/en/DeviceDoc/21889d.pdf; ComponentLink3Description: Package Specification; ComponentLink3URL: http://www.microchip.com/stellent/groups/techpub_sg/documents/packagingspec/en012702.pdf
footprint TO-92-TO3 (TO, Flat Index; 3 In-Line, Axial Leads; Body Dia. 4.8mm; Leads 0.56 x 0.53 mm (max))
pins: 1 OUT (power), 2 VDD (power), 3 VSS (power)

## MCP112-450E/TO
designator U?
1.75µA Micropower Voltage Detector, Push-Pull Output, 4.38V, 3-Pin TO-92, Extended Temperature; Manufacturer: Microchip; PartNumber: MCP112-450E/TO; DatasheetVersion: revD, Jun-2005; PackageVersion: revBB, Aug-2009; PackageReference: TO-92-TO3; PackageDescription: 3-Lead Plastic Transistor Outline (TO) [TO-92]; Supplier 1: Digi-Key; Supplier Part Number 1: MCP112-450E/TO-ND; Supplier 2: Farnell; Supplier Part Number 2: 1332060; Supplier 3: Newark; Supplier Part Number 3: 56J7344; Supplier 4: Mouser; Supplier Part Number 4: 579-MCP112-450E/TO; Mounting Technology: Through Hole; ComponentLink1Description: Manufacturer URL; ComponentLink1URL: http://www.microchip.com/; ComponentLink2Description: Datasheet; ComponentLink2URL: http://ww1.microchip.com/downloads/en/DeviceDoc/21889d.pdf; ComponentLink3Description: Package Specification; ComponentLink3URL: http://www.microchip.com/stellent/groups/techpub_sg/documents/packagingspec/en012702.pdf
footprint TO-92-TO3 (TO, Flat Index; 3 In-Line, Axial Leads; Body Dia. 4.8mm; Leads 0.56 x 0.53 mm (max))
pins: 1 OUT (power), 2 VDD (power), 3 VSS (power)

## MCP112T-195I/LB
designator U?
1.75µA Micropower Voltage Detector, Push-Pull Output, 1.90V, 3-Pin SC-70, Industrial Temperature, Tape and Reel; Manufacturer: Microchip; PartNumber: MCP112T-195I/LB; DatasheetVersion: revD, Jun-2005; PackageVersion: revBB, Aug-2009; PackageReference: SC70-LB3; PackageDescription: 3-Lead Plastic Small Outline Transistor (LB) [SC70]; Supplier 1: Digi-Key; Supplier Part Number 1: MCP112T-195I/LB-ND; Supplier 2: Mouser; Supplier Part Number 2: 579-MCP112T-195I/LB; Mounting Technology: Surface Mount; ComponentLink1Description: Manufacturer URL; ComponentLink1URL: http://www.microchip.com/; ComponentLink2Description: Datasheet; ComponentLink2URL: http://ww1.microchip.com/downloads/en/DeviceDoc/21889d.pdf; ComponentLink3Description: Package Specification; ComponentLink3URL: http://www.microchip.com/stellent/groups/techpub_sg/documents/packagingspec/en012702.pdf
footprint SC70-LB3_N (SOT323, 3-Leads, Body 2.0x1.3mm, Pitch 0.65mm, Lead Span 2.1mm, IPC Medium Density)
footprint SC70-LB3_L (SOT323, 3-Leads, Body 2.0x1.3mm, Pitch 0.65mm, Lead Span 2.1mm, IPC High Density)
footprint SC70-LB3_M (SOT323, 3-Leads, Body 2.0x1.3mm, Pitch 0.65mm, Lead Span 2.1mm, IPC Low Density)
pins: 1 OUT (power), 2 VSS (power), 3 VDD (power)

## MCP112T-195I/MB
designator U?
1.75µA Micropower Voltage Detector, Push-Pull Output, 1.90V, 3-Pin SOT-89, Industrial Temperature, Tape and Reel; Manufacturer: Microchip; PartNumber: MCP112T-195I/MB; DatasheetVersion: revD, Jun-2005; PackageVersion: revBB, Aug-2009; PackageReference: SOT-89-MB3; PackageDescription: 3-Lead Plastic Small Outline Transistor Header (MB) [SOT-89]; Supplier 1: Digi-Key; Supplier Part Number 1: MCP112T-195I/MB-ND; Supplier 2: Mouser; Supplier Part Number 2: 579-MCP112T-195I/MB; Mounting Technology: Surface Mount; Code_IPC: SOT89; ComponentLink1Description: Manufacturer URL; ComponentLink1URL: http://www.microchip.com/; ComponentLink2Description: Datasheet; ComponentLink2URL: http://ww1.microchip.com/downloads/en/DeviceDoc/21889d.pdf; ComponentLink3Description: Package Specification; ComponentLink3URL: http://www.microchip.com/stellent/groups/techpub_sg/documents/packagingspec/en012702.pdf
footprint SOT-89-MB3_N (SOT89, 3-Leads, Body 4.5x2.4 mm, Pitch 1.5mm, Lead Span 4.1mm, IPC Medium Density)
footprint SOT-89-MB3_L (SOT89, 3-Leads, Body 4.5x2.4 mm, Pitch 1.5mm, Lead Span 4.1mm, IPC High Density)
footprint SOT-89-MB3_M (SOT89, 3-Leads, Body 4.5x2.4 mm, Pitch 1.5mm, Lead Span 4.1mm, IPC Low Density)
pins: 1 OUT (power), 2 VDD (power), 3 VSS (power)